# Altium schematic symbol library MA600_Angle_Encoder.SchLib: 9 symbols
Pins are listed as number, name and electrical type; pins without a type are passive.

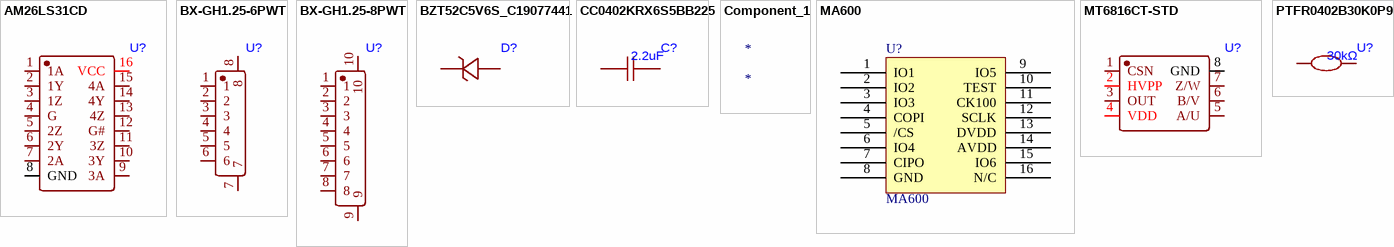
[diagram p0: symbols AM26LS31CD to PTFR0402B30K0P9]

## AM26LS31CD
designator U?
footprint SOIC-16_L9.9-W3.9-P1.27-LS6.0-BL
pins: 1 1A, 2 1Y, 3 1Z, 4 G, 5 2Z, 6 2Y, 7 2A, 8 GND, 9 3A, 10 3Y, 11 3Z, 12 G#, 13 4Z, 14 4Y, 15 4A, 16 VCC

## BX-GH1.25-6PWT
designator U?
footprint CONN-SMD_6P-P1.25_BX-GH1.25-6PWT
pins: 1, 2, 3, 4, 5, 6, 7, 8

## BX-GH1.25-8PWT
designator U?
footprint CONN-SMD_8P-P1.25_BX-GH1.25-8PWT
pins: 1, 2, 3, 4, 5, 6, 7, 8, 9, 10

## BZT52C5V6S_C19077441
designator D?
footprint SOD-323_L1.7-W1.3-LS2.6-RD
pins: 1 K, 2 A

## CC0402KRX6S5BB225
designator C?, comment 2.2uF
footprint C0402
pins: 1, 2

## Component_1
designator *

## MA600
designator U?
磁编码器
footprint qfn-16-l3.0-w3.0-p0.50-tl-ep1.7
pins: 1 IO1, 2 IO2, 3 IO3, 4 COPI, 5 /CS, 6 IO4, 7 CIPO, 8 GND, 9 IO5, 10 TEST, 11 CK100, 12 SCLK, 13 DVDD, 14 AVDD, 15 IO6, 16 N/C

## MT6816CT-STD
designator U?
footprint SOP-8_L4.9-W3.9-P1.27-LS6.0-BL
pins: 1 CSN, 2 HVPP, 3 OUT, 4 VDD, 5 A/U, 6 B/V, 7 Z/W, 8 GND

## PTFR0402B30K0P9
designator U?, comment 30kΩ
footprint R0402
pins: 1, 2